# Altium footprint library C1210(3225)x1.25.PcbLib: 1 footprints
Each footprint in its own frame and in the unit in brackets; x right, y up, seen from the top. Pads: shape width x height; smd on the part's side, far side on the other; paste and mask are expansions set on the pad; w line width, h text height; cw(c..) or ccw(c..) is an arc to the next point about the centre after c.
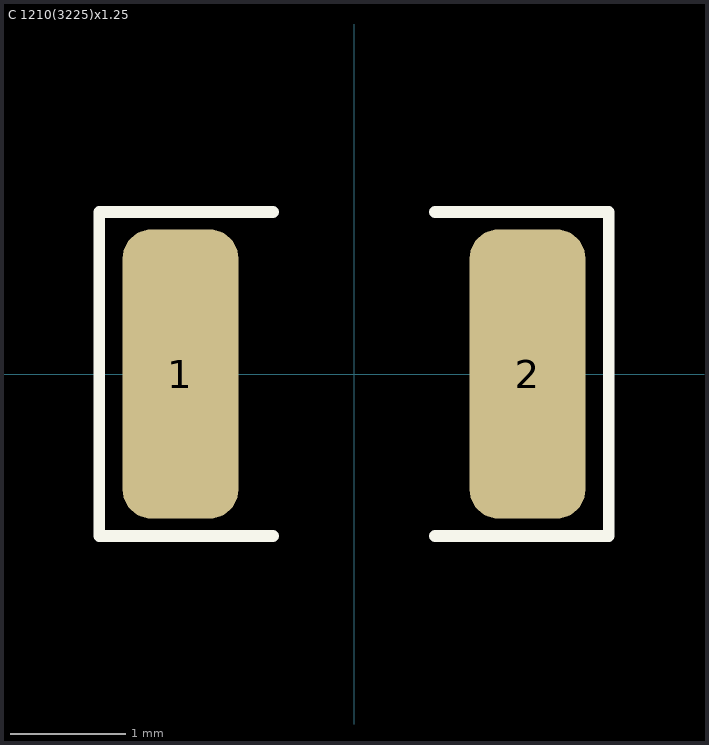
[diagram p0: the footprint, top view; thin cyan lines are the x and y axes]

## C 1210(3225)x1.25 [mm]
height 1.25
pads (2):
  rrect50% 1x2.5 smd: 1(-1.5,0) 2(1.5,0)
Top Overlay:
  lines w0.1: -0.7,-1.4 -2.2,-1.4 -2.2,1.4 -0.7,1.4 ; 0.7,-1.4 2.2,-1.4 2.2,1.4 0.7,1.4
3D body "Cap 1210(3225)x125N.STEP": height 1.25, standoff 0, extent -1.6,-1.25 1.6,1.25